# Altium schematic symbol library CONN-SPE-220P_AMP_3-1827253-6.SchLib: 1 symbol
Pins are listed as number, name and electrical type; pins without a type are passive.

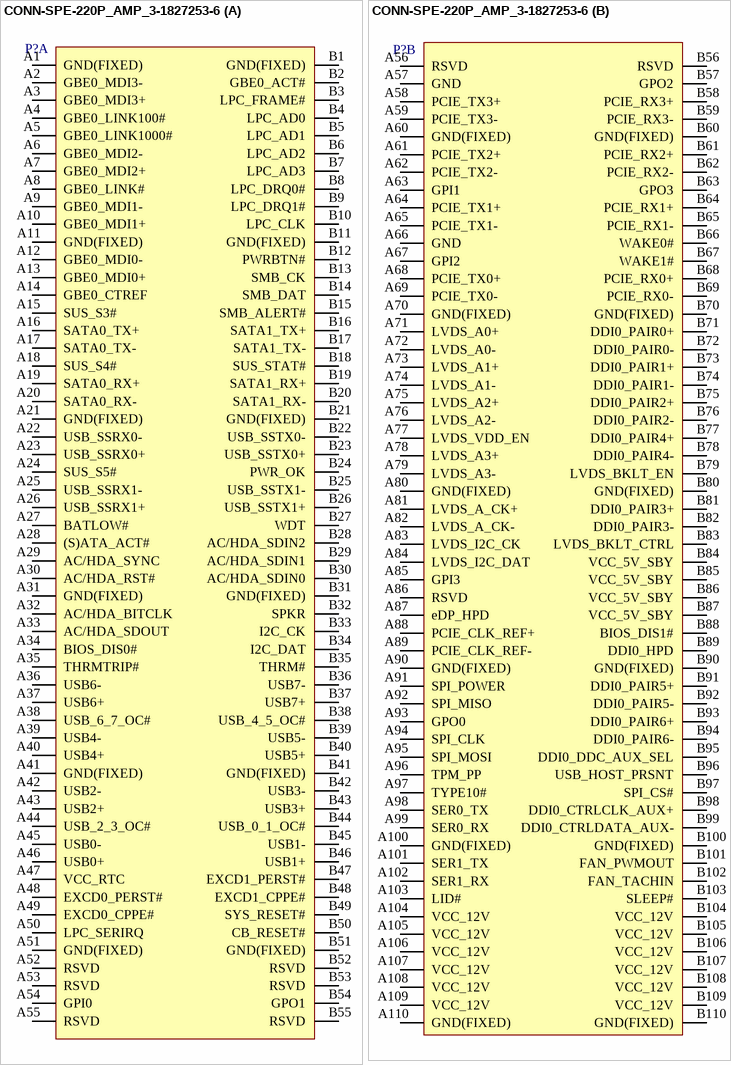
[diagram p0: symbol CONN-SPE-220P_AMP_3-1827253-6]

## CONN-SPE-220P_AMP_3-1827253-6
designator P?  (value not drawn)
part A pins: A1 GND(FIXED), A2 GBE0_MDI3-, A3 GBE0_MDI3+, A4 GBE0_LINK100#, A5 GBE0_LINK1000#, A6 GBE0_MDI2-, A7 GBE0_MDI2+, A8 GBE0_LINK#, A9 GBE0_MDI1-, A10 GBE0_MDI1+, A11 GND(FIXED), A12 GBE0_MDI0-, A13 GBE0_MDI0+, A14 GBE0_CTREF, A15 SUS_S3#, A16 SATA0_TX+, A17 SATA0_TX-, A18 SUS_S4#, A19 SATA0_RX+, A20 SATA0_RX-, A21 GND(FIXED), A22 USB_SSRX0-, A23 USB_SSRX0+, A24 SUS_S5#, A25 USB_SSRX1-, A26 USB_SSRX1+, A27 BATLOW#, A28 (S)ATA_ACT#, A29 AC/HDA_SYNC, A30 AC/HDA_RST#, A31 GND(FIXED), A32 AC/HDA_BITCLK, A33 AC/HDA_SDOUT, A34 BIOS_DIS0#, A35 THRMTRIP#, A36 USB6-, A37 USB6+, A38 USB_6_7_OC#, A39 USB4-, A40 USB4+, A41 GND(FIXED), A42 USB2-, A43 USB2+, A44 USB_2_3_OC#, A45 USB0-, A46 USB0+, A47 VCC_RTC, A48 EXCD0_PERST#, A49 EXCD0_CPPE#, A50 LPC_SERIRQ, A51 GND(FIXED), A52 RSVD, A53 RSVD, A54 GPI0, A55 RSVD, B1 GND(FIXED), B2 GBE0_ACT#, B3 LPC_FRAME#, B4 LPC_AD0, B5 LPC_AD1, B6 LPC_AD2, B7 LPC_AD3, B8 LPC_DRQ0#, B9 LPC_DRQ1#, B10 LPC_CLK, B11 GND(FIXED), B12 PWRBTN#, B13 SMB_CK, B14 SMB_DAT, B15 SMB_ALERT#, B16 SATA1_TX+, B17 SATA1_TX-, B18 SUS_STAT#, B19 SATA1_RX+, B20 SATA1_RX-, B21 GND(FIXED), B22 USB_SSTX0-, B23 USB_SSTX0+, B24 PWR_OK, B25 USB_SSTX1-, B26 USB_SSTX1+, B27 WDT, B28 AC/HDA_SDIN2, B29 AC/HDA_SDIN1, B30 AC/HDA_SDIN0, B31 GND(FIXED), B32 SPKR, B33 I2C_CK, B34 I2C_DAT, B35 THRM#, B36 USB7-, B37 USB7+, B38 USB_4_5_OC#, B39 USB5-, B40 USB5+, B41 GND(FIXED), B42 USB3-, B43 USB3+, B44 USB_0_1_OC#, B45 USB1-, B46 USB1+, B47 EXCD1_PERST#, B48 EXCD1_CPPE#, B49 SYS_RESET#, B50 CB_RESET#, B51 GND(FIXED), B52 RSVD, B53 RSVD, B54 GPO1, B55 RSVD
part B pins: A56 RSVD, A57 GND, A58 PCIE_TX3+, A59 PCIE_TX3-, A60 GND(FIXED), A61 PCIE_TX2+, A62 PCIE_TX2-, A63 GPI1, A64 PCIE_TX1+, A65 PCIE_TX1-, A66 GND, A67 GPI2, A68 PCIE_TX0+, A69 PCIE_TX0-, A70 GND(FIXED), A71 LVDS_A0+, A72 LVDS_A0-, A73 LVDS_A1+, A74 LVDS_A1-, A75 LVDS_A2+, A76 LVDS_A2-, A77 LVDS_VDD_EN, A78 LVDS_A3+, A79 LVDS_A3-, A80 GND(FIXED), A81 LVDS_A_CK+, A82 LVDS_A_CK-, A83 LVDS_I2C_CK, A84 LVDS_I2C_DAT, A85 GPI3, A86 RSVD, A87 eDP_HPD, A88 PCIE_CLK_REF+, A89 PCIE_CLK_REF-, A90 GND(FIXED), A91 SPI_POWER, A92 SPI_MISO, A93 GPO0, A94 SPI_CLK, A95 SPI_MOSI, A96 TPM_PP, A97 TYPE10#, A98 SER0_TX, A99 SER0_RX, A100 GND(FIXED), A101 SER1_TX, A102 SER1_RX, A103 LID#, A104 VCC_12V, A105 VCC_12V, A106 VCC_12V, A107 VCC_12V, A108 VCC_12V, A109 VCC_12V, A110 GND(FIXED), B56 RSVD, B57 GPO2, B58 PCIE_RX3+, B59 PCIE_RX3-, B60 GND(FIXED), B61 PCIE_RX2+, B62 PCIE_RX2-, B63 GPO3, B64 PCIE_RX1+, B65 PCIE_RX1-, B66 WAKE0#, B67 WAKE1#, B68 PCIE_RX0+, B69 PCIE_RX0-, B70 GND(FIXED), B71 DDI0_PAIR0+, B72 DDI0_PAIR0-, B73 DDI0_PAIR1+, B74 DDI0_PAIR1-, B75 DDI0_PAIR2+, B76 DDI0_PAIR2-, B77 DDI0_PAIR4+, B78 DDI0_PAIR4-, B79 LVDS_BKLT_EN, B80 GND(FIXED), B81 DDI0_PAIR3+, B82 DDI0_PAIR3-, B83 LVDS_BKLT_CTRL, B84 VCC_5V_SBY, B85 VCC_5V_SBY, B86 VCC_5V_SBY, B87 VCC_5V_SBY, B88 BIOS_DIS1#, B89 DDI0_HPD, B90 GND(FIXED), B91 DDI0_PAIR5+, B92 DDI0_PAIR5-, B93 DDI0_PAIR6+, B94 DDI0_PAIR6-, B95 DDI0_DDC_AUX_SEL, B96 USB_HOST_PRSNT, B97 SPI_CS#, B98 DDI0_CTRLCLK_AUX+, B99 DDI0_CTRLDATA_AUX-, B100 GND(FIXED), B101 FAN_PWMOUT, B102 FAN_TACHIN, B103 SLEEP#, B104 VCC_12V, B105 VCC_12V, B106 VCC_12V, B107 VCC_12V, B108 VCC_12V, B109 VCC_12V, B110 GND(FIXED)